# Altium footprint library Pro.PcbLib: 18 footprints (part 1 of 2)
Each footprint in its own frame and in the unit in brackets; x right, y up, seen from the top. Pads: shape width x height; smd on the part's side, far side on the other; paste and mask are expansions set on the pad; w line width, h text height; cw(c..) or ccw(c..) is an arc to the next point about the centre after c.
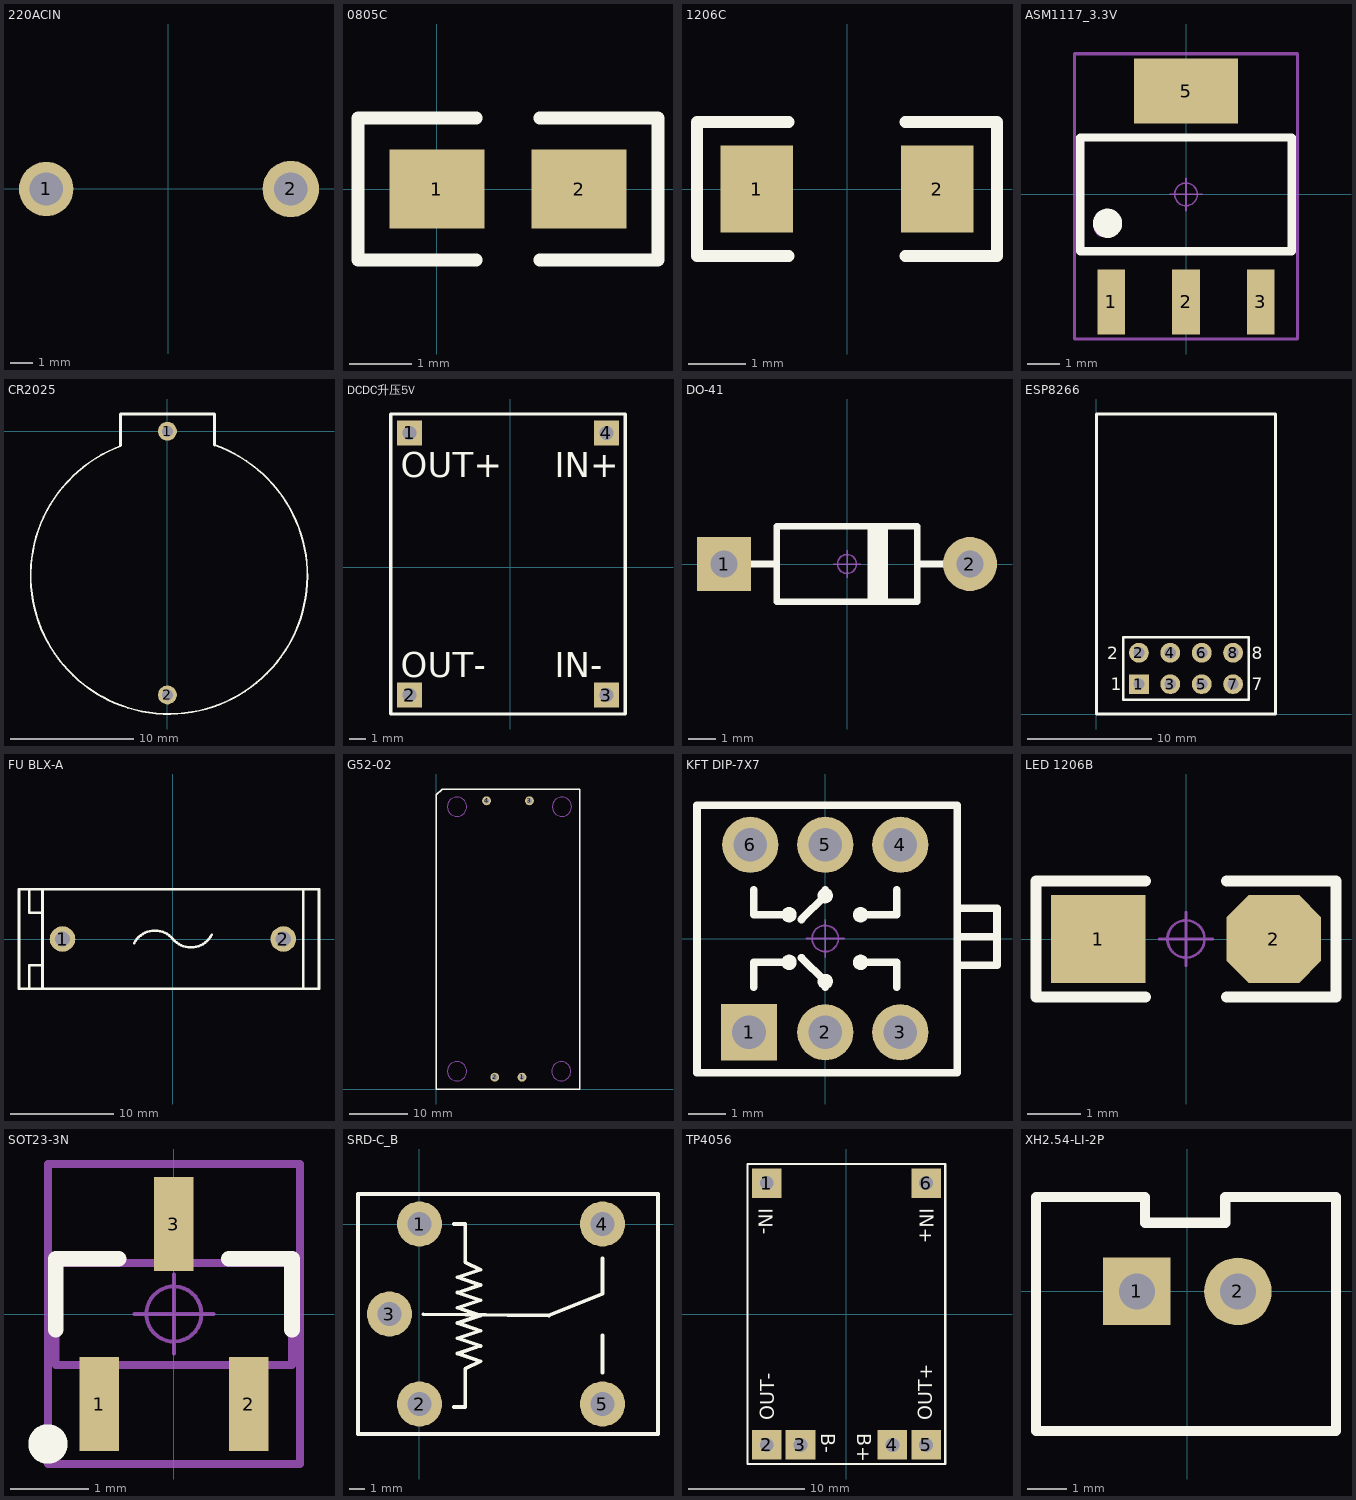
[diagram p0: the footprints below, top view; thin cyan lines are the x and y axes]

## 220ACIN [mm]
pads (2):
  round 2.45 hole 1.5: 1(-5.5,0)
  round 2.54 hole 1.5: 2(5.5,0)

## 0805C [mil] "2.0mmx1.2mm（蒜米工坊）"
height 19.68
pads (2):
  rect 60x50 smd: 1(0,0) 2(90,0)
Top Overlay:
  lines w8: 25,-45 -50,-45 -50,45 25,45 ; 65,-45 140,-45 140,45 65,45
3D body "R0805.STEP": height 21.65, standoff 0, extent 4.64,-24.8 83.37,24.81

## 1206C [mil] "3.2mmx1.6mm（蒜米工坊）"
height 19.68
pads (2):
  rect 50x60 smd: 1(-62,0) 2(62,0)
Top Overlay:
  lines w8: -40,-46 -103,-46 -103,46 -40,46 ; 40,-46 103,-46 103,46 40,46
3D body "R1206.STEP": height 23.62, standoff 0, extent -63.98,-32.49 62,30.51

## ASM1117_3.3V [mm] "6.4x7x1.6mm(长宽高)"
height 1.7
pads (4):
  rect 0.85x2 smd: 1(-2.3,-3.302) 2(0,-3.302) 3(2.3,-3.302)
  rect 3.2x2 smd: 5(0,3.175)
Top Overlay:
  circle w0.5: c-2.413,-0.889 r0.2
  lines w0.25: -3.25,-1.75 3.25,-1.75 3.25,1.75 -3.25,1.75 -3.25,-1.75
Mechanical 13:
  circle w0.1: c-2.536,-1.016 r0.25
  lines w0.1: -3.25,-1.75 -3.25,1.75 3.25,1.75 3.25,-1.75 -3.25,-1.75
Mechanical 15:
  circle w0.05: c0,0 r0.35
  lines w0.05: -0.5,0 0.5,0 ; 0,-0.5 0,0.5
  lines w0.1: -3.429,-4.445 -3.429,4.318 3.429,4.318 3.429,-4.445 -3.429,-4.445
3D body "SOT223.STEP": height 1.65, standoff -0.02, extent -3.25,-3.508 3.25,3.508

## CR2025 [mil]
pads (2):
  round 60 hole 35: 1(0,0) 2(0,-840)
Top Overlay:
  lines w6: -149.2,-47.15 ccw(c5,-460) 150.37,-43.95
  lines w10: -150,-45 -150,55 150,55 150,-43.95

## DCDC升压5V [mm]
pads (4):
  rect 1.524x1.524 hole 0.85: 1(-6.15,8.2) 2(-6.15,-7.8) 3(5.85,-7.8) 4(5.85,8.2)
Top Overlay:
  lines w0.2: -7.3,-8.95 7,-8.95 7,9.35 -7.3,9.35 -7.3,-8.95
  text "OUT+" at -6.7,5.5 h1.52
  text "OUT-" at -6.7,-6.7 h1.52
  text "IN-" at 2.7,-6.7 h1.52
  text "IN+" at 2.7,5.5 h1.52

## DO-41 [mm] "2.6*9.1mm(直径，脚距）"
height 2.4
pads (2):
  rect 2x2 hole 1: 1(-4.55,0)
  round 2 hole 1: 2(4.55,0)
Top Overlay:
  rectangle: 0.762,-1.397 1.524,1.397
  lines w0.254: -3.556,0 -2.6,0 ; 2.6,0 3.556,0 ; -2.6,-1.397 2.6,-1.397 2.6,1.397 -2.6,1.397 -2.6,-1.397
Mechanical 15:
  circle w0.05: c0,0 r0.35
  lines w0.05: -0.5,0 0.5,0 ; 0,-0.5 0,0.5
3D body "DO-41.STEP": height 2.65, standoff -3.45, extent -4.925,-1.288 4.975,1.314

## ESP8266 [mm]
pads (8):
  rect 1.6x1.6 hole 0.9: 1(3.429,2.413)
  round 1.6 hole 0.9: 2(3.429,4.953) 3(5.969,2.413) 4(5.969,4.953) 5(8.509,2.413) 6(8.509,4.953) 7(11.049,2.413) 8(11.049,4.953)
Top Overlay:
  lines w0.2: 4.911,1.143 12.319,1.143 12.319,6.223 2.159,6.223 2.159,1.143 9.779,1.143
  lines w0.254: 0,0 14.478,0 14.478,24.257 0,24.257 0,0
  text "7" at 12.573,1.905 h1.02
  text "2" at 0.889,4.445 h1.02
  text "1" at 1.143,1.905 h1.02
  text "8" at 12.573,4.445 h1.02
3D body "HDR2.54-1x2P.STEP": height 8.5, standoff -3, extent 7.239,1.143 9.779,6.223
3D body "HDR2.54-1x2P.STEP": height 8.5, standoff -3, extent 9.779,1.143 12.319,6.223
3D body "HDR2.54-1x2P.STEP": height 8.5, standoff -3, extent 2.159,1.143 4.699,6.223
3D body "HDR2.54-1x2P.STEP": height 8.5, standoff -3, extent 4.699,1.143 7.239,6.223

## FU BLX-A [mm] "BLX-A型保险丝座"
pads (2):
  round 2.5 hole 1.5: 1(-10.75,0) 2(10.75,0)
Top Overlay:
  lines w0.254: -12.7,-4.826 -12.7,-2.54 ; -12.7,4.826 -12.7,2.54 ; -3.782,-0.419 cw(c-1.751,-1.469) 0,0 ccw(c1.751,1.469) 3.782,0.419 ; 12.446,-4.826 14.224,-4.826 14.224,4.826 12.7,4.826 ; -13.97,-4.826 -14.986,-4.826 -14.986,4.826 -13.97,4.826 ; -13.97,-4.826 12.7,-4.826 12.7,4.826 ; -13.97,-4.826 -13.97,-2.54 -12.7,-2.54 ; -13.97,4.826 12.7,4.826 ; -13.97,4.826 -13.97,2.54 -12.7,2.54 ; -12.7,-2.54 -12.7,2.54
3D body "FU BLX_A.STEP": height 13.9, standoff -3.6, extent -15.05,-4.75 14.299,4.75

## G52-02 [mil]
pads (4):
  round 60 hole 35: 1(580,80) 2(395,80) 3(630,1950) 4(340,1950)
Top Overlay:
  lines w10: 0,0 970,0 970,2030 40,2030 0,1990 0,1060 0,0
Mechanical 1:
  circle w6: c850,1910 r65
  circle w6: c140,1910 r65
  circle w6: c140,120 r65
  circle w6: c845,120 r65

## KFT DIP-7X7 [mm] "自锁开关，规格：7*7mm"
pads (6):
  rect 1.5x1.5 hole 0.9: 1(-2.032,-2.5)
  round 1.5 hole 0.9: 2(0,-2.5) 3(2,-2.5) 4(2,2.5) 5(0,2.5) 6(-2,2.5)
Top Overlay:
  circle w0.254: c0.94,0.635 r0.076
  circle w0.254: c-0.965,0.635 r0.076
  circle w0.254: c0,1.143 r0.076
  circle w0.254: c0,-1.143 r0.076
  circle w0.254: c-0.965,-0.635 r0.076
  circle w0.254: c0.94,-0.635 r0.076
  lines w0.203: -1.905,-1.3 -1.905,-0.635 -0.889,-0.635 ; -1.905,1.3 -1.905,0.635 -0.889,0.635 ; -0.635,-0.508 0,-1.143 0,-1.3 ; -0.635,0.508 0,1.143 0,1.3 ; 1.016,-0.635 1.905,-0.635 1.905,-1.3 ; 1.016,0.635 1.905,0.635 1.905,1.3 ; 3.514,0.05 4.579,0.05 ; 3.563,-0.712 4.579,-0.712 4.579,0.812 3.563,0.812 ; -3.42,-3.581 -3.42,3.556 3.514,3.556 3.514,2.54 3.514,-3.581 -3.42,-3.581
Mechanical 15:
  circle w0.05: c0,0 r0.35
  lines w0.05: -0.5,0 0.5,0 ; 0,-0.5 0,0.5
3D body "SLSW 7x7.STEP": height 11.2, standoff -3.2, extent -3.5,-3.5 3.5,3.5

## LED 1206B [mil] "蓝色1206LED"
pads (2):
  rect 70x65 smd: 1(-65,0)
  oct 70x65 smd: 2(65,0)
Top Overlay:
  lines w8: -30,-43 -111,-43 -111,43 -109,43 -30,43 ; 30,-43 109,-43 ; 30,43 111,43 111,-43
Mechanical 15:
  circle w1.97: c0,0 r13.78
  lines w1.97: -19.68,0 19.68,0 ; 0,-19.68 0,19.68
3D body "LED 1206-B.STEP": height 35.58, standoff -0.16, extent -63.03,-31.54 63.03,31.54
3D body "LED 1206玻璃罩.STEP": height 39.57, standoff 19.88, extent -44.33,-31.54 44.33,31.54

## SOT23-3N [mm] "3x1.3x1mm(长宽高)"
height 1.1
pads (3):
  rect 0.5x1.2 smd: 1(-0.95,-1.143) 2(0.95,-1.143) 3(0,1.143)
Top Overlay:
  circle w0.25: c-1.6,-1.651 r0.125
  lines w0.2: -1.501,-0.2 -1.501,0.7 -0.701,0.7 ; 0.699,0.7 1.499,0.7 1.499,-0.2
Mechanical 13:
  lines w0.1: -1.5,-0.65 -1.5,0.65 1.5,0.65 1.5,-0.65 -1.5,-0.65
Mechanical 15:
  circle w0.05: c0,0 r0.35
  lines w0.05: -0.5,0 0.5,0 ; 0,-0.5 0,0.5
  lines w0.1: -1.6,-1.905 -1.6,1.905 1.6,1.905 1.6,-1.905 -1.6,-1.905
3D body "SOT23-3.STEP": height 1.05, standoff 0, extent -1.5,-1.2 1.5,1.2

## SRD-C_B [mm] "单刀双投"
pads (5):
  round 3 hole 1.6: 1(0,0) 2(0,-12) 3(-2,-6) 4(12.2,0) 5(12.2,-12)
Top Overlay:
  lines w0.254: 0.255,-6.02 8.636,-6.096 12.22,-4.64 ; 2.286,-12.192 3.048,-12.192 3.048,-10.668 3.048,-9.652 4.064,-9.144 2.54,-8.636 4.064,-8.128 2.54,-7.62 4.064,-7.112 2.54,-6.604 4.064,-6.096 2.54,-5.588 4.064,-5.08 2.54,-4.572 4.064,-4.064 2.54,-3.556 4.064,-3.048 3.048,-2.54 3.048,0 2.286,0 ; 12.192,-9.906 12.192,-8.636 ; 12.192,-9.144 12.192,-7.43 ; 12.192,-4.572 12.192,-2.286 ; -4.1,2 -4.1,-14 -3.9,-14 -3.6,-14 -3.4,-14 15.9,-14 15.9,-13.7 15.9,2 15.7,2 ; -4.1,2 -4.1,2 ; -4.1,2 -3.4,2 ; -3.4,2 15.7,2 ; -3.4,2 -3.4,2 ; -3.4,2 -3.4,2 ; 15.7,2 15.7,2
3D body "SRD-C_B.STEP": height 15.6, standoff -3.4, extent -3.4,-13.75 15.7,1.75

## TP4056 [mm] "充电保护模块"
pads (6):
  rect 2.54x2.54 hole 1.2: 1(-6.85,11.25) 2(-6.85,-11.25) 3(-3.95,-11.25) 4(3.95,-11.25) 5(6.85,-11.25) 6(6.85,11.25)
Top Overlay:
  lines w0.2: -8.5,-12.9 -8.5,0 -8.5,12.9 0,12.9 8.5,12.9 8.5,-12.9 0,-12.9 -8.5,-12.9
  text "OUT-" at -6.2,-9.15 h1.2
  text "OUT+" at 7.4,-9.15 h1.2
  text "B-" at -2.15,-10.25 h1.2
  text "B+" at 0.95,-10.25 h1.2
  text "IN-" at -7.55,9.1 h1.2
  text "IN+" at 6.3,9.1 h1.2

## XH2.54-LI-2P [mm] "接插件，2P"
pads (2):
  rect 1.7x1.7 hole 0.9: 1(-1.27,0)
  round 1.7 hole 0.9: 2(1.27,0)
Top Overlay:
  lines w0.254: -3.807,-3.505 3.736,-3.505 3.736,2.37 2.954,2.37 0.953,2.37 0.953,1.727 -1.067,1.727 -1.067,2.37 -3.807,2.37 -3.807,-3.505
3D body "XH2.54-2P.STEP": height 7.05, standoff -2.45, extent -3.77,-3.3 3.77,2.4